# Altium footprint library L31.PcbLib: 9 footprints
Each footprint in its own frame and in the unit in brackets; x right, y up, seen from the top. Pads: shape width x height; smd on the part's side, far side on the other; paste and mask are expansions set on the pad; w line width, h text height; cw(c..) or ccw(c..) is an arc to the next point about the centre after c.
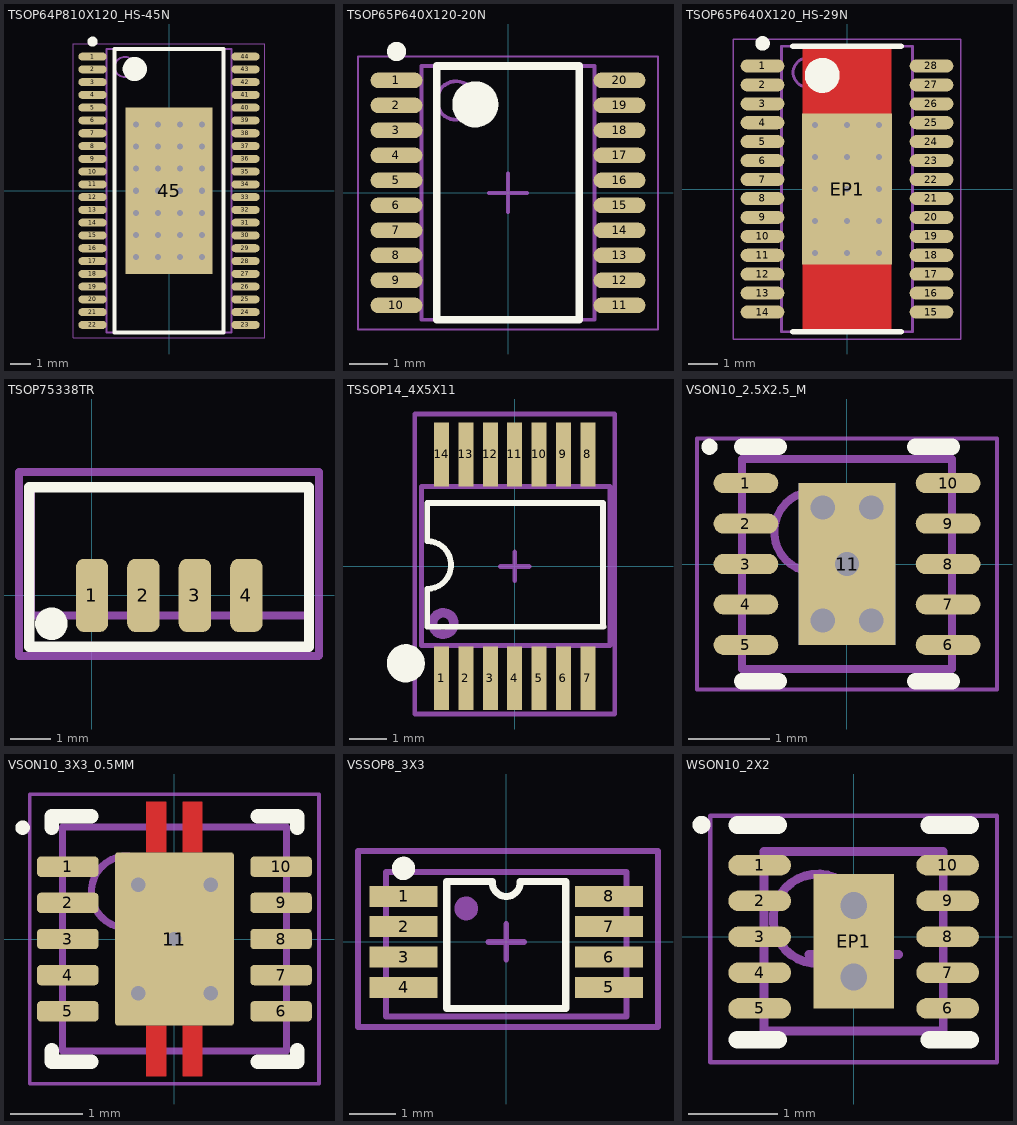
[diagram p0: the footprints below, top view; thin cyan lines are the x and y axes]

## TSOP64P810X120_HS-45N [mm] "TSOP, 44-Leads, Body 14.00x6.10mm, Pitch 0.64mm, Thermal Pad 8.26x4.31mm, IPC Medium Density"
height 1.2
pads (45):
  oval 1.4x0.4 smd: 1(-3.8,6.667) 2(-3.8,6.032) 3(-3.8,5.397) 4(-3.8,4.763) 5(-3.8,4.127) 6(-3.8,3.492) 7(-3.8,2.857) 8(-3.8,2.222) 9(-3.8,1.587) 10(-3.8,0.953) 11(-3.8,0.318) 12(-3.8,-0.318) 13(-3.8,-0.953) 14(-3.8,-1.587) 15(-3.8,-2.222) 16(-3.8,-2.857) 17(-3.8,-3.492) 18(-3.8,-4.127) 19(-3.8,-4.763) 20(-3.8,-5.397) 21(-3.8,-6.032) 22(-3.8,-6.667) 23(3.8,-6.667) 24(3.8,-6.032) 25(3.8,-5.397) 26(3.8,-4.763) 27(3.8,-4.127) 28(3.8,-3.492) 29(3.8,-2.857) 30(3.8,-2.222) 31(3.8,-1.587) 32(3.8,-0.953) 33(3.8,-0.318) 34(3.8,0.318) 35(3.8,0.953) 36(3.8,1.587) 37(3.8,2.222) 38(3.8,2.857) 39(3.8,3.492) 40(3.8,4.127) 41(3.8,4.763) 42(3.8,5.397) 43(3.8,6.032) 44(3.8,6.667)
  rect 4.31x8.26 smd: 45(0,0)
via 1.65,-3.3 diameter 0.6 hole 0.3
via 0.55,-3.3 diameter 0.6 hole 0.3
via -0.55,-3.3 diameter 0.6 hole 0.3
via -1.65,-3.3 diameter 0.6 hole 0.3
via 1.65,-2.2 diameter 0.6 hole 0.3
via 0.55,-2.2 diameter 0.6 hole 0.3
via -0.55,-2.2 diameter 0.6 hole 0.3
via -1.65,-2.2 diameter 0.6 hole 0.3
via 1.65,-1.1 diameter 0.6 hole 0.3
via 0.55,-1.1 diameter 0.6 hole 0.3
via -0.55,-1.1 diameter 0.6 hole 0.3
via -1.65,-1.1 diameter 0.6 hole 0.3
via 1.65,0 diameter 0.6 hole 0.3
via 0.55,0 diameter 0.6 hole 0.3
via -0.55,0 diameter 0.6 hole 0.3
via -1.65,0 diameter 0.6 hole 0.3
via 1.65,1.1 diameter 0.6 hole 0.3
via 0.55,1.1 diameter 0.6 hole 0.3
via -0.55,1.1 diameter 0.6 hole 0.3
via -1.65,1.1 diameter 0.6 hole 0.3
via 1.65,2.2 diameter 0.6 hole 0.3
via 0.55,2.2 diameter 0.6 hole 0.3
via -0.55,2.2 diameter 0.6 hole 0.3
via -1.65,2.2 diameter 0.6 hole 0.3
via 1.65,3.3 diameter 0.6 hole 0.3
via 0.55,3.3 diameter 0.6 hole 0.3
via -0.55,3.3 diameter 0.6 hole 0.3
via -1.65,3.3 diameter 0.6 hole 0.3
Top Overlay:
  circle w0.6: c-1.7,6.05 r0.3
  circle w0.25: c-3.8,7.418 r0.125
  lines w0.2: -2.7,-7.05 2.7,-7.05 2.7,7.05 -2.7,7.05 -2.7,-7.05
Mechanical 2:
  circle w0.1: c-2.2,6.15 r0.5
  lines w0.1: -3.1,-7.05 -3.1,7.05 3.1,7.05 3.1,-7.05 -3.1,-7.05
Mechanical 4:
  lines w0.05: -4.75,-7.3 -4.75,7.3 4.75,7.3 4.75,-7.3 -4.75,-7.3
  lines w0.1: -0.5,0 0.5,0 ; 0,-0.5 0,0.5
3D body "TSOP64P810X120_HS-45N.step": height 1.2, standoff 0, extent -4.05,-7.05 4.05,7.05

## TSOP65P640X120-20N [mm] "TSOP, 20-Leads, Body 6,50x4,40mm, Pitch 0,65mm, IPC Medium Density"
height 1.2
pads (20):
  oval 1.35x0.4 smd: 1(-2.9,2.925) 2(-2.9,2.275) 3(-2.9,1.625) 4(-2.9,0.975) 5(-2.9,0.325) 6(-2.9,-0.325) 7(-2.9,-0.975) 8(-2.9,-1.625) 9(-2.9,-2.275) 10(-2.9,-2.925) 11(2.9,-2.925) 12(2.9,-2.275) 13(2.9,-1.625) 14(2.9,-0.975) 15(2.9,-0.325) 16(2.9,0.325) 17(2.9,0.975) 18(2.9,1.625) 19(2.9,2.275) 20(2.9,2.925)
Top Overlay:
  circle w0.6: c-0.85,2.3 r0.3
  circle w0.25: c-2.9,3.675 r0.125
  lines w0.2: -1.85,-3.3 1.85,-3.3 1.85,3.3 -1.85,3.3 -1.85,-3.3
Mechanical 2:
  circle w0.1: c-1.35,2.4 r0.5
  lines w0.1: -2.25,-3.3 2.25,-3.3 2.25,3.3 -2.25,3.3 -2.25,-3.3
Mechanical 4:
  lines w0.05: -3.9,-3.55 3.9,-3.55 3.9,3.55 -3.9,3.55 -3.9,-3.55
  lines w0.1: -0.5,0 0.5,0 ; 0,-0.5 0,0.5
3D body "TSOP65P640X120-20N.step": height 1.2, standoff 0, extent -3.2,-3.3 3.2,3.3

## TSOP65P640X120_HS-29N [mm] "TSOP, 28-Leads, Body 9.70x4.40mm, Pitch 0.65mm, Thermal Pad 5.18x3.10mm, IPC Medium Density"
height 1.2
pads (29):
  oval 1.5x0.45 smd: 1(-2.9,4.225) 2(-2.9,3.575) 3(-2.9,2.925) 4(-2.9,2.275) 5(-2.9,1.625) 6(-2.9,0.975) 7(-2.9,0.325) 8(-2.9,-0.325) 9(-2.9,-0.975) 10(-2.9,-1.625) 11(-2.9,-2.275) 12(-2.9,-2.925) 13(-2.9,-3.575) 14(-2.9,-4.225) 15(2.9,-4.225) 16(2.9,-3.575) 17(2.9,-2.925) 18(2.9,-2.275) 19(2.9,-1.625) 20(2.9,-0.975) 21(2.9,-0.325) 22(2.9,0.325) 23(2.9,0.975) 24(2.9,1.625) 25(2.9,2.275) 26(2.9,2.925) 27(2.9,3.575) 28(2.9,4.225)
  rect 3.1x5.18 smd: EP1(0,0)
via -1.1,2.2 diameter 0.5 hole 0.2
via 0,2.2 diameter 0.5 hole 0.2
via 1.1,2.2 diameter 0.5 hole 0.2
via -1.1,1.1 diameter 0.5 hole 0.2
via 0,1.1 diameter 0.5 hole 0.2
via 1.1,1.1 diameter 0.5 hole 0.2
via -1.1,0 diameter 0.5 hole 0.2
via 0,0 diameter 0.5 hole 0.2
via 1.1,0 diameter 0.5 hole 0.2
via -1.1,-1.1 diameter 0.5 hole 0.2
via 0,-1.1 diameter 0.5 hole 0.2
via 1.1,-1.1 diameter 0.5 hole 0.2
via -1.1,-2.2 diameter 0.5 hole 0.2
via 0,-2.2 diameter 0.5 hole 0.2
via 1.1,-2.2 diameter 0.5 hole 0.2
Top Layer:
  rectangle: -1.524,-4.826 1.524,4.953
Top Overlay:
  circle w0.25: c-2.9,5 r0.125
  circle w0.6: c-0.85,3.9 r0.3
  lines w0.2: -1.85,-4.9 1.85,-4.9 ; -1.85,4.9 1.85,4.9
Mechanical 13:
  circle w0.1: c-1.35,4 r0.5
  lines w0.1: -2.25,-4.9 -2.25,4.9 2.25,4.9 2.25,-4.9 -2.25,-4.9
Mechanical 15:
  lines w0.05: -3.9,-5.15 -3.9,5.15 3.9,5.15 3.9,-5.15 -3.9,-5.15
  lines w0.1: -0.5,0 0.5,0 ; 0,-0.5 0,0.5
3D body "TSOP65P640X120_HS-29N.step": height 1.2, standoff 0, extent -3.2,-4.9 3.2,4.9

## TSOP75338TR [mm]
pads (4):
  rrect50% 0.8x1.8 smd mask+0.07: 1(0,0) 2(1.27,0) 3(2.54,0) 4(3.81,0)
Top Overlay:
  circle w0.4: c-1,-0.7 r0.2
  lines w0.254: -1.545,-1.27 5.355,-1.27 5.355,2.667 -1.545,2.667 -1.545,-1.27
Mechanical 2:
  lines w0.2: -1.5,-0.478 -1.478,-0.5 5.355,-0.5 5.355,2.646 5.334,2.667 -1.478,2.667 -1.5,2.645 -1.5,-0.478
Mechanical 4:
  lines w0.2: -1.8,3.048 -1.8,1.775 -1.8,-0.175 -1.8,-0.869 -1.8,-1.056 -1.8,-1.5 5.584,-1.5 5.6,-1.484 5.6,-1.3 5.6,3.032 5.591,3.042 ; -1.787,3.048 0.059,3.048 3.751,3.048 5.597,3.048
3D body "82672Heimdall.stp": height 2.91, standoff -0.29, extent -1.545,-0.507 5.355,2.593

## TSSOP14_4X5X11 [mm]
pads (14):
  rect 0.4x1.7 smd: 1(-1.95,-2.984) 2(-1.3,-2.984) 3(-0.65,-2.984) 4(0,-2.984) 5(0.65,-2.984) 6(1.3,-2.984) 7(1.95,-2.984) 8(1.95,2.985) 9(1.3,2.985) 10(0.65,2.985) 11(0,2.985) 12(-0.65,2.985) 13(-1.3,2.985) 14(-1.95,2.985)
Top Overlay:
  circle w0.508: c-2.904,-2.584 r0.254
  lines w0.152: 2.343,1.689 -2.331,1.689 -2.331,0.673 cw(c-2.331,0.038) -2.331,-0.597 -2.331,-1.613 2.368,-1.613 ; 2.353,-1.613 2.353,1.689
Mechanical 13:
  circle w0.254: c-1.905,-1.524 r0.284
  lines w0.127: -2.489,-2.108 2.54,-2.108 2.54,2.134 -2.464,2.134 -2.489,2.134 -2.489,-2.108
Mechanical 15:
  lines w0.127: -0.381,0 0.381,0 ; 0,-0.381 0,0.381 ; -2.667,-3.937 -2.667,4.064 2.667,4.064 2.667,-3.937 -2.667,-3.937
Mechanical 17:
  text "'.Designator'" at -2.286,-0.254 h0.64
Mechanical 19:
  text "'.Comment'" at -2.286,-0.254 h0.64
3D body "SOP65P640X120-14N.stp": height 1.05, standoff 0, extent -2.5,-3.188 2.5,3.222

## VSON10_2.5X2.5_M [mm] "VSON, 10-Leads, Body 2,50x2,50mm, Pitch 0,50mm, Thermal Pad 2,00x1,2mm, IPC Medium Density"
height 0.8
pads (11):
  oval 0.8x0.25 smd: 1(-1.25,1) 2(-1.25,0.5) 3(-1.25,0) 4(-1.25,-0.5) 5(-1.25,-1) 6(1.25,-1) 7(1.25,-0.5) 8(1.25,0) 9(1.25,0.5) 10(1.25,1)
  rect 1.2x2 smd: 11(0,0)
via 0.3,-0.7 diameter 0.5 hole 0.3
via -0.3,-0.7 diameter 0.5 hole 0.3
via 0.3,0.7 diameter 0.5 hole 0.3
via 0,0 diameter 0.5 hole 0.3
via -0.3,0.7 diameter 0.5 hole 0.3
Bottom Layer:
  rectangle: -0.6,-1 0.6,1
Top Overlay:
  circle w0.1: c-1.7,1.45 r0.05
  lines w0.2: -1.3,-1.45 -0.845,-1.45 ; -1.3,1.45 -0.845,1.45 ; 0.845,-1.45 1.3,-1.45 ; 0.845,1.45 1.3,1.45
Mechanical 13:
  circle w0.1: c-0.4,0.4 r0.5
  lines w0.1: -1.3,-1.3 -1.3,1.3 1.3,1.3 1.3,-1.3 -1.3,-1.3
Mechanical 15:
  lines w0.05: -1.855,-1.55 -1.855,1.55 1.855,1.55 1.855,-1.55 -1.855,-1.55
  lines w0.1: -0.5,0 0.5,0 ; 0,-0.5 0,0.5
Mechanical 17:
  text "'.Designator'" at -1.143,-0.889 h0.64
Mechanical 19:
  text "'.Comment'" at -1.143,-0.889 h0.64
3D body "User Library-DSK-10.step": height 0.85, standoff 0, extent -1.35,-1.3 1.35,1.3

## VSON10_3X3_0.5MM [mm] "SON, 10-Leads, Body 3x3mm, Pitch 0.5mm, Thermal Pad 2.4x1.65mm"
height 1
pads (11):
  rrect36% 0.85x0.28 smd paste-0.025 mask+0.07: 1(-1.475,1) 2(-1.475,0.5) 3(-1.475,0) 4(-1.475,-0.5) 5(-1.475,-1) 6(1.475,-1) 7(1.475,-0.5) 8(1.475,0) 9(1.475,0.5) 10(1.475,1)
  rrect6% 1.65x2.4 smd paste-0.825 mask+0.07: 11(0,0)
via -0.5,0.75 diameter 0.5 hole 0.2
via 0.5,0.75 diameter 0.5 hole 0.2
via -0.5,-0.75 diameter 0.5 hole 0.2
via 0.5,-0.75 diameter 0.5 hole 0.2
via 0,0 diameter 0.5 hole 0.2
Top Layer:
  rectangle: -0.39,1.2 -0.11,1.9
  region: 0.39,1.9 0.11,1.9 0.11,1.2 0.39,1.2
  region: 0.39,-1.2 0.11,-1.2 0.11,-1.9 0.39,-1.9
  rectangle: -0.39,-1.9 -0.11,-1.2
Top Overlay:
  circle w0.1: c-2.1,1.54 r0.05
  lines w0.2: -1.7,-1.54 -1.7,-1.7 -1.15,-1.7 ; -1.7,1.54 -1.7,1.7 -1.15,1.7 ; 1.15,-1.7 1.7,-1.7 1.7,-1.54 ; 1.15,1.7 1.7,1.7 1.7,1.54
Top Paste:
  rectangle: -0.79,0.11 -0.11,1.16
  rectangle: -0.38,1.38 -0.12,1.88
  region: 0.38,1.88 0.12,1.88 0.12,1.38 0.38,1.38
  region: 0.38,-1.38 0.12,-1.38 0.12,-1.88 0.38,-1.88
  rectangle: -0.38,-1.88 -0.12,-1.38
  region: 0.79,1.16 0.11,1.16 0.11,0.11 0.79,0.11
  region: 0.79,-0.11 0.11,-0.11 0.11,-1.16 0.79,-1.16
  rectangle: -0.79,-1.16 -0.11,-0.11
Mechanical 2:
  circle w0.1: c-0.65,0.65 r0.5
  lines w0.1: -1.55,-1.55 -1.55,1.55 1.55,1.55 1.55,-1.55 -1.55,-1.55
Mechanical 4:
  lines w0.05: -2,-2 -2,2 2,2 2,-2 -2,-2
3D body "User Library-PVSON-10-1.step": height 0.9, standoff 0, extent -1.501,-1.501 1.501,1.501

## VSSOP8_3X3 [mm]
pads (8):
  rect 1.45x0.45 smd: 1(-2.2,0.975) 2(-2.2,0.325) 3(-2.2,-0.325) 4(-2.2,-0.975) 5(2.2,-0.975) 6(2.2,-0.325) 7(2.2,0.325) 8(2.2,0.975)
Top Overlay:
  circle w0.25: c-2.2,1.575 r0.125
  lines w0.152: -0.3,1.275 ccw(c0,1.275) 0.3,1.275 ; -0.3,1.293 -1.275,1.293 -1.275,-1.426 1.275,-1.421 1.275,1.293 0.3,1.293
Mechanical 13:
  circle w0.254: c-0.858,0.717 r0.127
  lines w0.127: -2.575,-1.6 2.575,-1.6 2.575,1.5 -2.575,1.5 -2.575,-1.6
Mechanical 15:
  lines w0.127: -0.381,0 0.381,0 ; 0,-0.381 0,0.381 ; -3.175,-1.825 -3.175,1.95 3.25,1.95 3.25,-1.825 -3.175,-1.825
Mechanical 17:
  text "'.Designator'" at -2.231,-0.269 h0.4
Mechanical 19:
  text "'.Comment'" at -1.231,-0.269 h0.4
3D body "User Library-VSSOP8 3x3 e0_65-1.step": height 1.1, standoff 0, extent -2.5,-1.5 2.5,1.5

## WSON10_2X2 [mm]
height 0.8
pads (11):
  oval 0.7x0.23 smd: 1(-1.05,0.8) 2(-1.05,0.4) 3(-1.05,0) 4(-1.05,-0.4) 5(-1.05,-0.8) 6(1.05,-0.8) 7(1.05,-0.4) 8(1.05,0) 9(1.05,0.4) 10(1.05,0.8)
  rect 0.9x1.5 smd: EP1(0,-0.05)
via 0,-0.45 diameter 0.3 hole 0.3
via 0,0.35 diameter 0.3 hole 0.3
Top Overlay:
  circle w0.1: c-1.7,1.25 r0.05
  lines w0.2: -1.3,-1.15 -0.845,-1.15 ; -1.3,1.25 -0.845,1.25 ; 0.845,-1.15 1.3,-1.15 ; 0.845,1.25 1.3,1.25
Mechanical 13:
  circle w0.1: c-0.4,0.2 r0.5
  lines w0.1: -1,-1.05 -1,0.95 1,0.95 1,-1.05 -1,-1.05
Mechanical 15:
  lines w0.05: -1.6,-1.4 -1.6,1.35 1.6,1.35 1.6,-1.4 -1.6,-1.4
  lines w0.1: -0.5,-0.2 0.5,-0.2 ; 0,-0.7 0,0.3
Mechanical 17:
  text "'.Designator'" at -1.9,0 h0.33
Mechanical 19:
  text "'.Comment'" at -1.4,-0.8 h0.33
3D body: height 0.8, standoff 0.05, extent -1,-1.05 1,0.95